# Altium integrated library ST Video AFC and ID Circuit.IntLib: 1 symbol
Pins are listed as number, name and electrical type; pins without a type are passive.

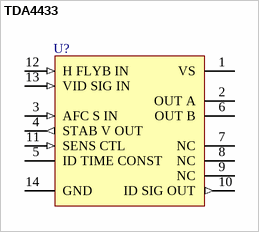
[diagram p0: symbol TDA4433]

## TDA4433
designator U?
TV Signal Identification Circuit and AFC Interface; Published: 24-Aug-2001; LatestRevisionDate: 06-Jun-2005; LatestRevisionNote: Stylized 3D Model Added.; DatasheetVersion: Dec-1992; PackageVersion: Jan-1997; PackageReference: DIP14; Publisher: Altium Limited; PackageDescription: DIP; 14 Leads; Row Spacing 7.62 mm; Pitch 2.54 mm; ComponentLink1Description: Manufacturer Link; ComponentLink1URL: http://www.st.com/
footprint DIP14 (DIP; 14 Leads; Row Spacing 7.62 mm; Pitch 2.54 mm)
3D model DIP14 (DIP; 14 Leads; Row Spacing 7.62 mm; Pitch 2.54 mm)
pins: 1 VS (power), 2 OUT A (oc), 3 AFC S IN (in), 4 STAB V OUT (out), 5 ID TIME CONST, 6 OUT B (oc), 7 NC, 8 NC, 9 NC, 10 ID SIG OUT (out), 11 SENS CTL (in), 12 H FLYB IN (in), 13 VID SIG IN (in), 14 GND (power)